# EAGLE library part OLED-2.42 (library dadamachines)
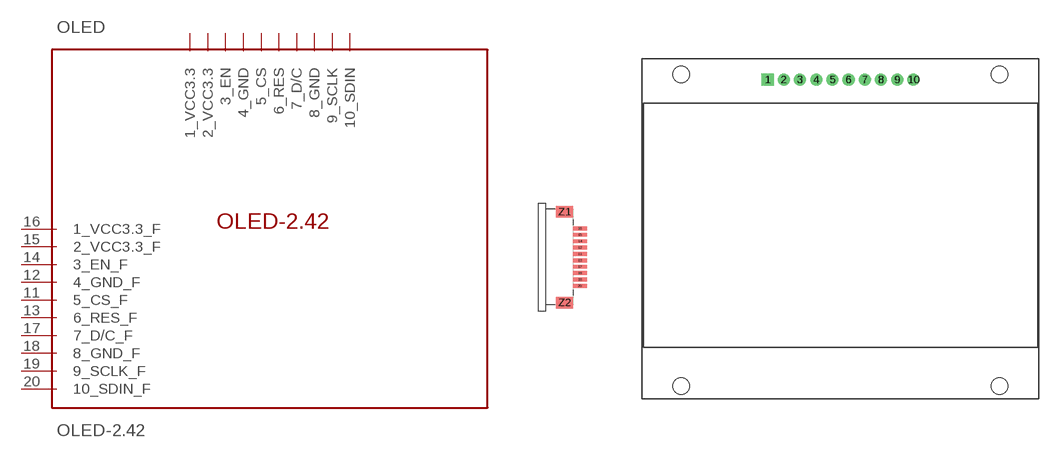
[diagram p20: symbol with the pads of OLED-2.42; footprint OLED-2.42]

Designator prefix OLED

## OLED-2.42  [OLED-2.42]
1  1_VCC3.3  pwr
2  2_VCC3.3  pwr
3  3_EN
4  4_GND
5  5_CS
6  6_RES
7  7_D/C
8  8_GND
9  9_SCLK
10  10_SDIN
11  5_CS_F
12  4_GND_F
13  6_RES_F
14  3_EN_F
15  2_VCC3.3_F  pwr
16  1_VCC3.3_F  pwr
17  7_D/C_F
18  8_GND_F
19  9_SCLK_F
20  10_SDIN_F

## Footprint OLED-2.42 (pad centres in mm)
drill 1.016 pad 1.88 square: 1 -11.4,23.35
drill 1.016 pad 1.88: 2 -8.89,23.35; 3 -6.35,23.35; 4 -3.81,23.35; 5 -1.27,23.35; 6 1.27,23.35; 7 3.81,23.35; 8 6.35,23.35; 9 8.89,23.35; 10 11.43,23.35
smd 2.2 x 0.6: 11 -40.78,-3.945; 12 -40.78,-2.945; 13 -40.78,-4.945; 14 -40.78,-1.945; 15 -40.78,-0.945; 16 -40.78,0.055; 17 -40.78,-5.945; 18 -40.78,-6.945; 19 -40.78,-7.945; 20 -40.78,-8.945
smd 2.6 x 1.8: Z1 -43.18,2.655; Z2 -43.18,-11.545
hole 2.6 at -24.9,24.15
hole 2.6 at -24.9,-24.65
hole 2.6 at 24.9,24.15
hole 2.6 at 24.9,-24.65